# Altium schematic symbol library SYM-Connector.SchLib: 117 symbols (part 1 of 4)
Pins are listed as number, name and electrical type; pins without a type are passive.

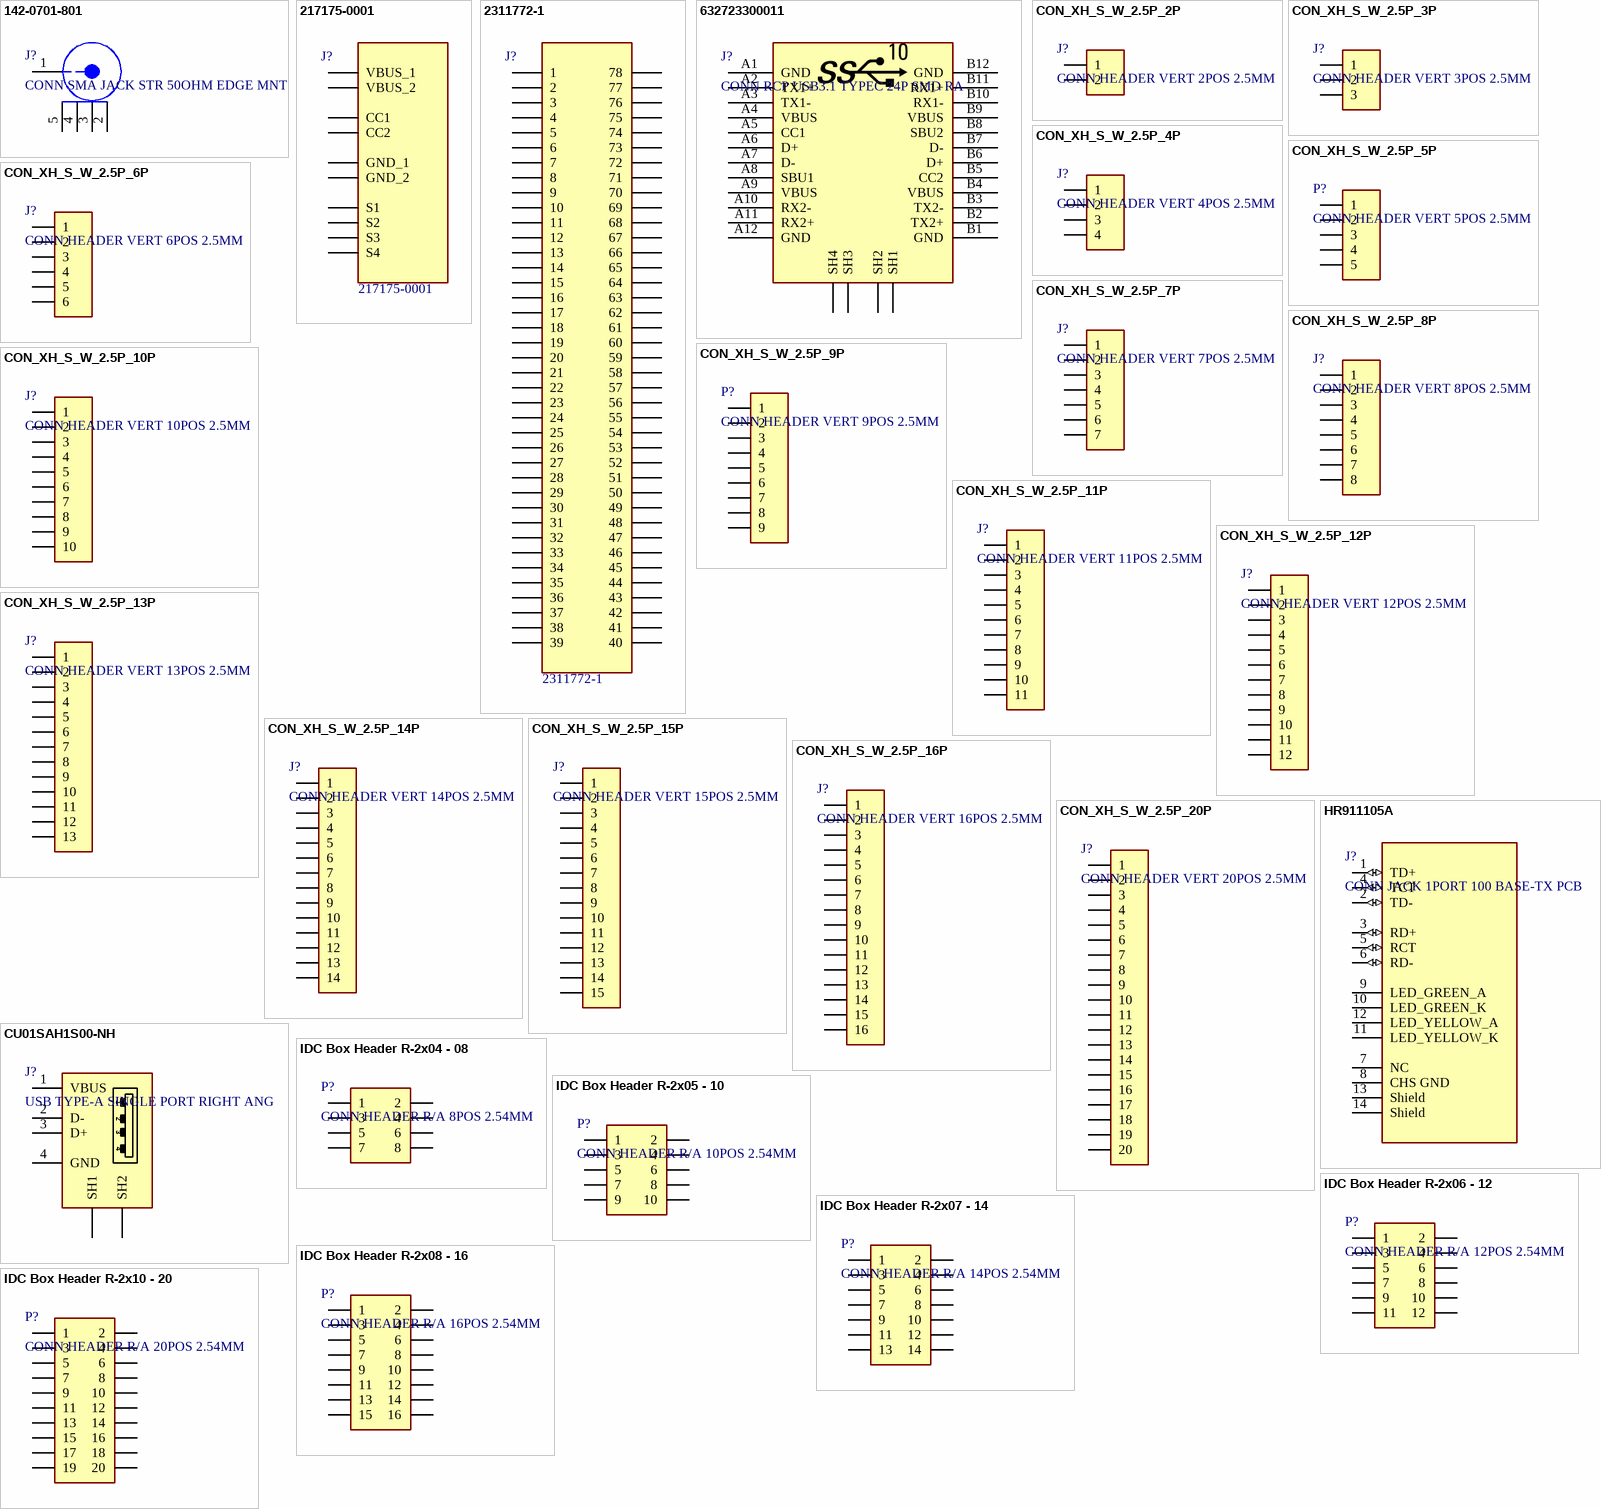
[diagram p0: symbols 142-0701-801 to IDC Box Header R-2x10 - 20]

## 142-0701-801
designator J?, comment CONN SMA JACK STR 50OHM EDGE MNT
Conn SMA 0Hz to 18GHz 50Ohm Solder ST Edge Mount F Gold Over Nickel Over Copper; Manufacturer: Emerson; Manufacturer Part Number: 142-0701-801; Supplier 1: Digi-Key; RoHS: No; Stock 1: 36873; Pricing 1: 1=3/74000, 10=3/39900, 25=3/21920, 50=3/14440, 100=2/99460, 250=2/62028, 500=2/54542, 1000=2/17110, 2500=2/09623 (USD); RoHS Compliant: No; ComponentLink1URL: http://www.belfuse.com/resources/Johnson/drawings/dr-1420701801.pdf?src-supplier=Digi-Key; ComponentLink1Description: http://www.belfuse.com/resources/Johnson/drawings/dr-1420701801.pdf?src-supplier=Digi-Key; Supplier Part Number 1: J502-ND
footprint SMA Jack - SL
pins: 1, 2, 3, 4, 5

## 217175-0001
designator J?, comment Manufacturer Part Number: 217175-0001  (hidden comment: USB Connectors Top-Mnt SMT 6Ckt Type C Rec.)
Connector USB Type C Female 6Positions 0.5mm Right Angle SMT Embossed T/R; Manufacturer: Molex; Supplier 1: Mouser; RoHS: No; Category: Connectors; Stock 1: 9778; Pricing 1: 1=1/07000, 10=0/88000, 50=0/88000, 100=0/73400, 1000=0/58600, 10000=0/47600 (USD); Supplier Part Number 1: 538-217175-0001
footprint 2171750001
pins: A5 CC1, A9 VBUS_1, A12 GND_1, B5 CC2, B9 VBUS_2, B12 GND_2, S1, S2, S3, S4

## 2311772-1
designator J?, comment Manufacturer Part Number: 2311772-1  (hidden comment: CONN D-SUB HD RCPT 78P R/A SLDR)
Conn High Density D Subminiature RCP 78 POS 2.42mm Solder RA Through Hole; Manufacturer: TE Connectivity AMP; Supplier 1: Mouser; RoHS: Yes; Category: D-Sub Connectors; Stock 1: 227; Pricing 1: 1=32/76000, 10=28/69000, 50=27/45000, 100=26/56000, 1000=24/26000, 10000=24/26000 (USD); ComponentLink1URL: https://www.te.com/commerce/DocumentDelivery/DDEController?Action=srchrtrv&amp;DocNm=2311772&amp;DocType=Customer+Drawing&amp;DocLang=English&src-supplier=Digi-Key; ComponentLink1Description: https://www.te.com/commerce/DocumentDelivery/DDEController?Action=srchrtrv&amp;DocNm=2311772&amp;DocType=Customer+Drawing&amp;DocLang=English&src-supplier=Digi-Key; Supplier Part Number 1: 571-2311772-1
footprint 2311772-1
pins: 1, 2, 3, 4, 5, 6, 7, 8, 9, 10, 11, 12, 13, 14, 15, 16, 17, 18, 19, 20, 21, 22, 23, 24, 25, 26, 27, 28, 29, 30, 31, 32, 33, 34, 35, 36, 37, 38, 39, 40, 41, 42, 43, 44, 45, 46, 47, 48, 49, 50, 51, 52, 53, 54, 55, 56, 57, 58, 59, 60, 61, 62, 63, 64, 65, 66, 67, 68, 69, 70, 71, 72, 73, 74, 75, 76, 77, 78

## 632723300011
designator J?, comment CONN RCP USB3.1 TYPEC 24P SMD RA
Conn USB 3.1 Type C RCP 24 POS 0.5mm/0.4mm Solder RA SMD/Thru-Hole 24 Terminal 1 Port T/R; Manufacturer: Wurth Electronics; Manufacturer Part Number: 632723300011; Number of Contacts: 24; Gender: Receptacle; Supplier 1: Digi-Key; RoHS: Yes; Category: Connectors; Stock 1: 23572; Pricing 1: 1=4/24000, 10=3/93300, 50=3/31200, 100=3/05300 (USD); Mount: Surface Mount,Through Hole; Packaging: Tape and Reel; Connector Type: USB; RoHS Compliant: Yes; ComponentLink1URL: https://www.mouser.com/ds/2/445/632723x00011-782157.pdf?src-supplier=Mouser; ComponentLink1Description: https://www.mouser.com/ds/2/445/632723x00011-782157.pdf?src-supplier=Mouser; ComponentLink2URL: https://katalog.we-online.de/em/datasheet/632723x00011.pdf?src-supplier=Digi-Key; ComponentLink2Description: https://katalog.we-online.de/em/datasheet/632723x00011.pdf?src-supplier=Digi-Key; Supplier Part Number 1: 732-9618-1-ND
footprint USB_C_THSM (USB 3.1 Type C Receptacle Horizontal THR)
pins: A1 GND, A2 TX1+, A3 TX1-, A4 VBUS, A5 CC1, A6 D+, A7 D-, A8 SBU1, A9 VBUS, A10 RX2-, A11 RX2+, A12 GND, B1 GND, B2 TX2+, B3 TX2-, B4 VBUS, B5 CC2, B6 D+, B7 D-, B8 SBU2, B9 VBUS, B10 RX1-, B11 RX1+, B12 GND, SH1, SH2, SH3, SH4

## CON_XH_S_W_2.5P_2P
designator J?, comment CONN HEADER VERT 2POS 2.5MM
Conn Shrouded Header (4 Sides) HDR 2 POS 2.5mm Solder ST Top Entry Thru-Hole Box; Manufacturer: JST; Manufacturer Part Number: B2B-XH-AM(LF)(SN); Contact Resistance: 20mR; Number of Positions: 2; Connector Type: Male Pin; Max Current Rating: 3A; Max Voltage Rating (AC): 250V; Supplier 1: Digi-Key; RoHS: Yes; Category: Headers and Wire Housings; Pricing 1: 1=0/17000, 10=0/13400, 100=0/09910, 500=0/08198, 1000=0/07173, 5000=0/06148, 10000=0/05977 (USD); Mount: Through Hole; Contact Material: Brass; Contact Plating: Tin,Copper; Color: Green; Housing Color: White; Housing Material: Polyamide; Min Operating Temperature: -25°C; Max Operating Temperature: 85°C; Number of Rows: 1; Packaging: Bulk; Fastening Type: Detent; Termination: Solder; Orientation: Straight; Series: XH; Contact Type: Male Pin; Length: 7.4mm; Pitch: 2.5mm; Depth: 5.75mm; Lead Free: Lead Free; ComponentLink1URL: https://datasheet.ciiva.com/26894/getdatasheetpartid-640409-26894436.pdf?src-supplier=Verical; ComponentLink1Description: https://datasheet.ciiva.com/26894/getdatasheetpartid-640409-26894436.pdf?src-supplier=Verical; ComponentLink2URL: https://datasheet.ciiva.com/14800/exh-14800590.pdf?src-supplier=Digi-Key; ComponentLink2Description: https://datasheet.ciiva.com/14800/exh-14800590.pdf?src-supplier=Digi-Key; Supplier Part Number 1: 455-2273-ND
footprint XH-S-THT-W-02
pins: 1, 2

## CON_XH_S_W_2.5P_3P
designator J?, comment CONN HEADER VERT 3POS 2.5MM
间距2.5mm 3pin 直插 母座; Manufacturer: JST; Manufacturer Part Number: B3B-XH-AM(LF)(SN); Number of Positions: 3; Connector Type: Male Pin; Contact Resistance: 20mR; Max Current Rating: 3A; Max Voltage Rating (AC): 250V; Gender: Male; Pitch: 0.098inch; Supplier 1: Digi-Key; RoHS: Yes; Category: Headers and Wire Housings; Pricing 1: 1=0/18000, 10=0/14800, 100=0/11380, 500=0/09632, 1000=0/07881, 5000=0/07006, 10000=0/06349 (USD); Mount: Through Hole; Contact Plating: Tin,Copper,Lead; Color: Natural; Contact Material: Brass; Housing Color: White; Housing Material: Polyamide; Min Operating Temperature: -25°C; Max Operating Temperature: 85°C; Packaging: Bulk; Termination: Press-Fit; Number of Rows: 1; Fastening Type: Detent; Orientation: Straight; Length: 9.9mm; Depth: 5.75mm; Lead Free: Lead Free; ComponentLink1URL: https://datasheet.ciiva.com/26894/getdatasheetpartid-639773-26894456.pdf?src-supplier=Verical; ComponentLink1Description: https://datasheet.ciiva.com/26894/getdatasheetpartid-639773-26894456.pdf?src-supplier=Verical; Supplier Part Number 1: 455-2231-ND
footprint XH-S-THT-W-03
pins: 1, 2, 3

## CON_XH_S_W_2.5P_4P
designator J?, comment CONN HEADER VERT 4POS 2.5MM
Conn Shrouded Header HDR 4 POS 2.5mm Solder ST Top Entry Thru-Hole Box; Manufacturer: JST; Manufacturer Part Number: B4B-XH-AM (LF)(SN); Number of Positions: 4; Connector Type: Male Pin; Contact Resistance: 20mR; Max Current Rating: 3A; Max Voltage Rating (AC): 250V; Gender: Male; Pitch: 0.098inch; Supplier 1: Digi-Key; RoHS: Yes; Category: Headers and Wire Housings; Mount: Through Hole; Number of Pins: 4; Contact Plating: Tin,Copper,Lead; Color: Green; Contact Material: Brass; Housing Color: White; Housing Material: Polyamide; Min Operating Temperature: -25°C; Max Operating Temperature: 85°C; Number of Rows: 1; Packaging: Bulk; Termination: Press-Fit; Fastening Type: Detent; Orientation: Straight; Length: 12.4mm; Depth: 5.75mm; Lead Free: Lead Free; ComponentLink1URL: https://datasheet.ciiva.com/26894/getdatasheetpartid-731169-26894469.pdf?src-supplier=Verical; ComponentLink1Description: https://datasheet.ciiva.com/26894/getdatasheetpartid-731169-26894469.pdf?src-supplier=Verical; Supplier Part Number 1: 455-2237-ND
footprint XH-S-THT-W-04
pins: 1, 2, 3, 4

## CON_XH_S_W_2.5P_5P
designator P?, comment CONN HEADER VERT 5POS 2.5MM
JST, Connector Header, 5 Position, 2.5mm, Through Hole, Shrouded - 4 Wall, Press-Fit, Solder, Detent Lock, Natural; Manufacturer Part Number: B5B-XH-AM(LF)(SN); Contact Resistance: 20mR; Max Current Rating: 3A; Number of Positions: 5; Max Voltage Rating (AC): 250V; Connector Type: Male Pin; Pitch: 0.098inch; Supplier 1: Digi-Key; Manufacturer: JST; RoHS: Yes; Category: Connectors; Stock 1: 7780; Pricing 1: 1=0/26000, 10=0/21900, 100=0/16880, 500=0/14286, 1000=0/11688, 5000=0/10389, 10000=0/09415 (USD); Mount: Through Hole; Contact Material: Brass; Contact Plating: Tin,Copper,Lead; Color: Green; Housing Color: White; Housing Material: Polyamide; Min Operating Temperature: -25°C; Max Operating Temperature: 85°C; Number of Rows: 1; Packaging: Bulk; Termination: Press-Fit; Fastening Type: Detent; Orientation: Straight; Series: XH; Contact Type: Male Pin; Length: 14.9mm; Depth: 5.75mm; Lead Free: Lead Free; ComponentLink1URL: https://datasheet.ciiva.com/26894/getdatasheetpartid-640829-26894480.pdf?src-supplier=Verical; ComponentLink1Description: https://datasheet.ciiva.com/26894/getdatasheetpartid-640829-26894480.pdf?src-supplier=Verical; ComponentLink2URL: https://datasheet.ciiva.com/726/exh-726396.pdf?src-supplier=Digi-Key; ComponentLink2Description: https://datasheet.ciiva.com/726/exh-726396.pdf?src-supplier=Digi-Key; Supplier Part Number 1: 455-2239-ND
footprint XH-S-THT-W-05
pins: 1, 2, 3, 4, 5

## CON_XH_S_W_2.5P_6P
designator J?, comment CONN HEADER VERT 6POS 2.5MM
Connector Header, XH Series, 6 Position, 2.5mm, Shrouded - 4 Wall, Through Hole, Press-Fit, Solder, Detent Lock, ...; Manufacturer: JST; Manufacturer Part Number: B6B-XH-AM(LF)(SN); Shape: Straight; Number of Poles: 6; Current Rating: 3A; Supplier 1: Digi-Key; RoHS: No; Category: Connectors; Pricing 1: 1=0/31000, 10=0/26000, 100=0/20240, 500=0/17352, 1000=0/14459, 5000=0/12394, 10000=0/11567 (USD); Number of Pins: 6; Contact Plating: Copper,Tin,Lead; Min Operating Temperature: -25°C; Max Operating Temperature: 85°C; Length: 17.4mm; Width: 5.75mm; Height: 7mm; Pitch: 2.5mm; ComponentLink1URL: http://www.jst-mfg.com/product/pdf/eng/eXH.pdf?src-supplier=Digi-Key; ComponentLink1Description: http://www.jst-mfg.com/product/pdf/eng/eXH.pdf?src-supplier=Digi-Key; Supplier Part Number 1: 455-2238-ND
footprint XH-S-THT-W-06
pins: 1, 2, 3, 4, 5, 6

## CON_XH_S_W_2.5P_7P
designator J?, comment CONN HEADER VERT 7POS 2.5MM
Conn Header Xh Top 7POS 2.5MM; Manufacturer: JST; Manufacturer Part Number: B7B-XH-AM(LF)(SN); Number of Positions: 7; Connector Type: Male Pin; Pitch: 0.098inch; Supplier 1: Digi-Key; RoHS: Yes; Category: FFC / FPC; Stock 1: 14476; Pricing 1: 1=0/35000, 10=0/29700, 100=0/23060, 500=0/19768, 1000=0/16473, 5000=0/14120, 10000=0/13179 (USD); Mount: Through Hole; Number of Pins: 7; Color: Green; Contact Plating: Tin; Packaging: Bulk; Number of Rows: 1; Termination: Press-Fit; Fastening Type: Detent; ComponentLink1URL: http://www.jst-mfg.com/product/pdf/eng/eXH.pdf?src-supplier=Digi-Key; ComponentLink1Description: http://www.jst-mfg.com/product/pdf/eng/eXH.pdf?src-supplier=Digi-Key; Supplier Part Number 1: 455-2235-ND
footprint XH-S-THT-W-07
pins: 1, 2, 3, 4, 5, 6, 7

## CON_XH_S_W_2.5P_8P
designator J?, comment CONN HEADER VERT 8POS 2.5MM
Connector Header, XH Series, 8 Position, 2.5mm, Shrouded - 4 Wall, Through Hole, Press-Fit, Solder, Detent Lock, ...; Manufacturer: JST; Manufacturer Part Number: B8B-XH-AM(LF)(SN); Number of Positions: 8; Connector Type: Male Pin; Pitch: 0.098inch; Supplier 1: Digi-Key; RoHS: Yes; Category: Connectors; Stock 1: 9799; Pricing 1: 1=0/38000, 10=0/32600, 100=0/25390, 500=0/21764, 1000=0/18136, 5000=0/15545, 10000=0/14509 (USD); Mount: Through Hole; Color: Green; Contact Plating: Tin; Packaging: Bulk; Termination: Press-Fit; Series: XH; Number of Rows: 1; Contact Type: Male Pin; Fastening Type: Detent; Lead Free: Lead Free; ComponentLink1URL: https://datasheet.ciiva.com/16363/exh-16363693.pdf?src-supplier=Future+Electronics; ComponentLink1Description: https://datasheet.ciiva.com/16363/exh-16363693.pdf?src-supplier=Future+Electronics; Supplier Part Number 1: 455-2232-ND
footprint XH-S-THT-W-08
pins: 1, 2, 3, 4, 5, 6, 7, 8

## CON_XH_S_W_2.5P_9P
designator P?, comment CONN HEADER VERT 9POS 2.5MM
Manufacturer: JST; Manufacturer Part Number: B9B-XH-AM(LF)(SN); Supplier 1: Digi-Key; RoHS: No; Category: Connectors; Stock 1: 71; Pricing 1: 1=0/44000, 10=0/37200, 100=0/28910, 500=0/24778, 1000=0/20648, 5000=0/17698, 10000=0/16518 (USD); Supplier Part Number 1: 455-4239-ND
footprint XH-S-THT-W-09
pins: 1, 2, 3, 4, 5, 6, 7, 8, 9

## CON_XH_S_W_2.5P_10P
designator J?, comment CONN HEADER VERT 10POS 2.5MM
Conn Shrouded Header HDR 10 POS 2.5mm Solder ST Thru-Hole Box; Manufacturer: JST; Manufacturer Part Number: B10B-XH-AM (LF)(SN); Contact Resistance: 20mR; Max Current Rating: 3A; Number of Positions: 10; Max Voltage Rating (AC): 250V; Gender: Male; Connector Type: Male Pin; Pitch: 0.098inch; Supplier 1: Digi-Key; RoHS: Yes; Category: Connectors; Mount: Through Hole; Number of Pins: 10; Contact Material: Brass; Contact Plating: Tin,Copper,Lead; Color: Green; Housing Color: White; Housing Material: Polyamide; Min Operating Temperature: -25°C; Max Operating Temperature: 85°C; Number of Rows: 1; Packaging: Bulk; Termination: Press-Fit; Fastening Type: Detent; Orientation: Straight; Length: 27.4mm; Depth: 5.75mm; ComponentLink1URL: https://datasheet.ciiva.com/26894/getdatasheetpartid-748904-26894395.pdf?src-supplier=Verical; ComponentLink1Description: https://datasheet.ciiva.com/26894/getdatasheetpartid-748904-26894395.pdf?src-supplier=Verical; Supplier Part Number 1: 455-2234-ND
footprint XH-S-THT-W-10
pins: 1, 2, 3, 4, 5, 6, 7, 8, 9, 10

## CON_XH_S_W_2.5P_11P
designator J?, comment CONN HEADER VERT 11POS 2.5MM
11 Contacts 2.5 mm Pitch Top Entry Disconnectable Crimp Style Connector; Manufacturer: JST; Manufacturer Part Number: B11B-XH-A(LF)(SN); Number of Positions: 11; Connector Type: Male Pin; Contact Resistance: 10mR; Current Rating: 3A; Voltage Rating (AC): 250V; Insulation Resistance: 1GR; Gender: Male; Pitch: 0.098inch; Wire/Cable Gauge: 22AWG; Supplier 1: Digi-Key; RoHS: Yes; Category: FFC / FPC; Pricing 1: 1=0/44000, 10=0/38400, 100=0/31630, 500=0/27502, 1000=0/22689, 5000=0/19939, 10000=0/18564 (USD); Mount: Through Hole; Color: Natural; Contact Plating: Tin,Lead; Contact Material: Brass; Min Operating Temperature: -25°C; Max Operating Temperature: 85°C; Number of Rows: 1; Package Quantity: 250; Packaging: Bulk; Termination: Press-Fit; Series: XH; Contact Type: Male Pin; Number of Contacts: 11; Lead Pitch: 2.5mm; REACH SVHC: No SVHC; Lead Free: Lead Free; ComponentLink1URL: https://datasheet.ciiva.com/16359/jstb11b-xh-a-lf-sn-16359290.pdf?src-supplier=Future+Electronics; ComponentLink1Description: https://datasheet.ciiva.com/16359/jstb11b-xh-a-lf-sn-16359290.pdf?src-supplier=Future+Electronics; ComponentLink2URL: https://datasheet.ciiva.com/726/exh-726410.pdf?src-supplier=Digi-Key; ComponentLink2Description: https://datasheet.ciiva.com/726/exh-726410.pdf?src-supplier=Digi-Key; Supplier Part Number 1: 455-2255-ND
footprint XH-S-THT-W-11
pins: 1, 2, 3, 4, 5, 6, 7, 8, 9, 10, 11

## CON_XH_S_W_2.5P_12P
designator J?, comment CONN HEADER VERT 12POS 2.5MM
Manufacturer: JST; Manufacturer Part Number: B12B-XH-AM(LF)(SN); Number of Positions: 12; Connector Type: Male Pin; Pitch: 0.098inch; Supplier 1: Digi-Key; RoHS: Yes; Category: Connectors; Pricing 1: 1=0/52000, 10=0/45400, 100=0/37450, 500=0/32566, 1000=0/26868, 5000=0/23611, 10000=0/21983 (USD); Mount: Through Hole; Color: Green; Contact Plating: Tin; Number of Rows: 1; Packaging: Bulk; Termination: Press-Fit; Series: XH; Contact Type: Male Pin; Fastening Type: Detent; ComponentLink1URL: https://datasheet.ciiva.com/726/exh-726390.pdf?src-supplier=Digi-Key; ComponentLink1Description: https://datasheet.ciiva.com/726/exh-726390.pdf?src-supplier=Digi-Key; Supplier Part Number 1: 455-2233-ND
footprint XH-S-THT-W-12
pins: 1, 2, 3, 4, 5, 6, 7, 8, 9, 10, 11, 12

## CON_XH_S_W_2.5P_13P
designator J?, comment CONN HEADER VERT 13POS 2.5MM
13 Position 2.5 mm Pitch Top Entry Through Hole Shrouded Header; Manufacturer: JST; Manufacturer Part Number: B13B-XH-A(LF)(SN); Number of Positions: 13; Connector Type: Male Pin; Pitch: 0.098inch; Supplier 1: Digi-Key; RoHS: Yes; Category: FFC / FPC; Stock 1: 357; Pricing 1: 1=0/54000, 10=0/47200, 100=0/38880, 500=0/33812, 1000=0/27895, 5000=0/24514, 10000=0/22823 (USD); Mount: Through Hole; Color: Natural; Contact Plating: Tin; Number of Rows: 1; Packaging: Bulk; Termination: Press-Fit; Series: XH; Contact Type: Male Pin; Package Quantity: 250; Lead Free: Lead Free; ComponentLink1URL: https://datasheet.ciiva.com/726/exh-726415.pdf?src-supplier=Digi-Key; ComponentLink1Description: https://datasheet.ciiva.com/726/exh-726415.pdf?src-supplier=Digi-Key; Supplier Part Number 1: 455-2260-ND
footprint XH-S-THT-W-13
pins: 1, 2, 3, 4, 5, 6, 7, 8, 9, 10, 11, 12, 13

## CON_XH_S_W_2.5P_14P
designator J?, comment CONN HEADER VERT 14POS 2.5MM
XH Series 14 Position 2.5 mm Pitch Through Hole Top Entry Shrouded Header; Manufacturer: JST; Manufacturer Part Number: B14B-XH-A(LF)(SN); Number of Positions: 14; Connector Type: Male Pin; Pitch: 0.098inch; Supplier 1: Digi-Key; RoHS: Yes; Category: FFC / FPC; Stock 1: 4940; Pricing 1: 1=0/58000, 10=0/51000, 100=0/42040, 500=0/36552, 1000=0/30156, 5000=0/26501, 10000=0/24673 (USD); Mount: Through Hole; Color: Natural; Contact Plating: Tin; Package Quantity: 250; Number of Rows: 1; Packaging: Bulk; Termination: Press-Fit; Series: XH; Contact Type: Male Pin; Lead Free: Lead Free; ComponentLink1URL: https://datasheet.ciiva.com/726/exh-726413.pdf?src-supplier=Digi-Key; ComponentLink1Description: https://datasheet.ciiva.com/726/exh-726413.pdf?src-supplier=Digi-Key; ComponentLink2URL: https://datasheet.ciiva.com/16359/b14b-xh-alfsn-16359517.pdf?src-supplier=Future+Electronics; ComponentLink2Description: https://datasheet.ciiva.com/16359/b14b-xh-alfsn-16359517.pdf?src-supplier=Future+Electronics; Supplier Part Number 1: 455-2258-ND
footprint XH-S-THT-W-14
pins: 1, 2, 3, 4, 5, 6, 7, 8, 9, 10, 11, 12, 13, 14

## CON_XH_S_W_2.5P_15P
designator J?, comment CONN HEADER VERT 15POS 2.5MM
Connector Header, XH Series, 15 Position, 2.50mm, Through Hole, Press-Fit, Solder, Natural; Manufacturer: JST; Manufacturer Part Number: B15B-XH-A(LF)(SN); Number of Positions: 15; Connector Type: Male Pin; Pitch: 0.098inch; Supplier 1: Digi-Key; RoHS: Yes; Category: Connectors; Stock 1: 3012; Pricing 1: 1=0/61000, 10=0/53600, 100=0/44160, 500=0/38398, 1000=0/31679, 5000=0/27839, 10000=0/25919 (USD); Mount: Through Hole; Color: Natural; Contact Plating: Tin; Packaging: Bulk; Number of Rows: 1; Termination: Press-Fit; Fastening Type: Detent; Lead Free: Lead Free; ComponentLink1URL: https://datasheet.ciiva.com/16216/b15b-xh-alfsn-16216429.pdf?src-supplier=Future+Electronics; ComponentLink1Description: https://datasheet.ciiva.com/16216/b15b-xh-alfsn-16216429.pdf?src-supplier=Future+Electronics; Supplier Part Number 1: 455-2254-ND
footprint XH-S-THT-W-15
pins: 1, 2, 3, 4, 5, 6, 7, 8, 9, 10, 11, 12, 13, 14, 15

## CON_XH_S_W_2.5P_16P
designator J?, comment CONN HEADER VERT 16POS 2.5MM
ShroudedHdr, ThruHole, Top Entry, 16Circuit, 2.5mmPitch; Manufacturer: JST; Manufacturer Part Number: B16B-XH-A(LF)(SN); Max Current Rating: 3A; Number of Positions: 16; Max Voltage Rating (AC): 250V; Gender: Male; Connector Type: Male Pin; Contact Resistance: 20mR; Pitch: 0.098inch; Supplier 1: Digi-Key; RoHS: Yes; Category: FFC / FPC; Stock 1: 12042; Pricing 1: 1=0/65000, 10=0/56600, 100=0/46640, 500=0/40560, 1000=0/33462, 5000=0/29406, 10000=0/27378 (USD); Mount: Through Hole; Contact Material: Brass; Contact Plating: Tin,Copper,Lead; Color: Natural; Housing Color: White; Housing Material: Polyamide; Min Operating Temperature: -25°C; Max Operating Temperature: 85°C; Packaging: Bulk; Termination: Press-Fit; Series: XH; Number of Rows: 1; Package Quantity: 200; Number of Contacts: 16; Orientation: Straight; Contact Type: Male Pin; Length: 42.4mm; Depth: 5.75mm; REACH SVHC: No SVHC; Lead Free: Lead Free; ComponentLink1URL: https://datasheet.ciiva.com/26894/getdatasheetpartid-640313-26894415.pdf?src-supplier=Verical; ComponentLink1Description: https://datasheet.ciiva.com/26894/getdatasheetpartid-640313-26894415.pdf?src-supplier=Verical; ComponentLink2URL: https://datasheet.ciiva.com/16422/exh-16422810.pdf?src-supplier=Future+Electronics; ComponentLink2Description: https://datasheet.ciiva.com/16422/exh-16422810.pdf?src-supplier=Future+Electronics; ComponentLink3URL: https://datasheet.ciiva.com/726/exh-726398.pdf?src-supplier=Digi-Key; ComponentLink3Description: https://datasheet.ciiva.com/726/exh-726398.pdf?src-supplier=Digi-Key; Supplier Part Number 1: 455-2241-ND
footprint XH-S-THT-W-16
pins: 1, 2, 3, 4, 5, 6, 7, 8, 9, 10, 11, 12, 13, 14, 15, 16

## CON_XH_S_W_2.5P_20P
designator J?, comment CONN HEADER VERT 20POS 2.5MM
XH Series 20 Position 2.5 mm Pitch Through Hole Top Entry Shrouded Header; Manufacturer: JST; Manufacturer Part Number: B20B-XH-A(LF)(SN); Number of Positions: 20; Connector Type: Male Pin; Pitch: 0.098inch; Supplier 1: Digi-Key; RoHS: Yes; Category: FFC / FPC; Pricing 1: 1=0/81000, 10=0/68200, 100=0/61220, 500=0/50092, 1000=0/44527, 5000=0/38961, 10000=0/37013 (USD); Mount: Through Hole; Color: Natural; Contact Plating: Tin; Packaging: Bulk; Number of Rows: 1; Termination: Press-Fit; Fastening Type: Detent; Lead Free: Lead Free; ComponentLink1URL: http://www.jst-mfg.com/product/pdf/eng/eXH.pdf?src-supplier=Digi-Key; ComponentLink1Description: http://www.jst-mfg.com/product/pdf/eng/eXH.pdf?src-supplier=Digi-Key; ComponentLink2URL: http://www.jst-mfg.com/product/pdf/eng/eXH.pdf?src-supplier=Future+Electronics; ComponentLink2Description: http://www.jst-mfg.com/product/pdf/eng/eXH.pdf?src-supplier=Future+Electronics; Supplier Part Number 1: 455-2945-ND
footprint XH-S-THT-W-20
pins: 1, 2, 3, 4, 5, 6, 7, 8, 9, 10, 11, 12, 13, 14, 15, 16, 17, 18, 19, 20

## CU01SAH1S00-NH
designator J?, comment USB TYPE-A SINGLE PORT RIGHT ANG
Manufacturer: CviLux; Manufacturer Part Number: CU01SAH1S00-NH; Supplier 1: Digi-Key; Stock 1: 6712; Pricing 1: 1=0/57000, 10=0/49800, 25=0/45520, 40=0/42850, 150=0/41053, 300=0/37487, 450=0/35700, 1050=0/29452, 2400=0/26775 (USD); Supplier Part Number 1: 2987-CU01SAH1S00-NH-ND
footprint USB_A_REC_RA_THD (CONN, USB A, Receptacle, RIGHT ANGLE, THD)
pins: 1 VBUS, 2 D-, 3 D+, 4 GND, SH1, SH2

## HR911105A
designator J?, comment CONN JACK 1PORT 100 BASE-TX PCB
footprint HR911105A
pins: 1 TD+ (io), 2 TD- (io), 3 RD+ (io), 4 TCT (io), 5 RCT (io), 6 RD- (io), 7 NC, 8 CHS GND, 9 LED_GREEN_A, 10 LED_GREEN_K, 11 LED_YELLOW_K, 12 LED_YELLOW_A, 13 Shield, 14 Shield

## IDC Box Header R-2x04 - 08
designator P?, comment CONN HEADER R/A 8POS 2.54MM
Conn Shrouded Header (4 Sides) HDR 8 POS 2.54mm Solder RA Thru-Hole C-Grid® Tray; Manufacturer: Molex; Manufacturer Part Number: 70247-0851; Max Voltage Rating (DC): 250V; Number of Contacts: 8; Gender: Male; Current Rating: 2.5A; Connector Type: Male Pin; Contact Post Length: 3.05mm; Glow Wire Compliant: Non-compliant; Supplier 1: Digi-Key; RoHS: Yes; Category: Headers and Wire Housings; Pricing 1: 1=1/88000, 10=1/60000, 100=1/32210, 1000=1/04375, 5000=0/92546, 10000=0/90459 (USD); Mount: Through Hole; Contact Plating: Gold; Contact Material: Bronze; Housing Color: Black; Housing Material: Polyester; Color: Black; Material: Polyester; Min Operating Temperature: -55°C; Max Operating Temperature: 120°C; Number of Rows: 2; Packaging: Tray; Termination: Through Hole; Orientation: Right Angle; Package Quantity: 1; Voltage Rating (DC): 250V; Contact Gender: Male; Number of Positions: 8; Number of Circuits: 8; Series: 70247; Pitch: 2.54mm; Row Spacing: 2.54mm; Contact Mating Length: 6.1mm; REACH SVHC: No SVHC; ELV: Compliant; Lead Free: Lead Free; Flammability Rating: UL94 V-0; RoHS Compliant: Yes; ComponentLink1URL: https://datasheet.ciiva.com/30259/342430702470851-pcb-headers-30259619.pdf?src-supplier=Onlinecomponents.com; ComponentLink1Description: https://datasheet.ciiva.com/30259/342430702470851-pcb-headers-30259619.pdf?src-supplier=Onlinecomponents.com; ComponentLink2URL: https://datasheet.ciiva.com/5162/0702470851-pcb-headers-150048-5162327.pdf?src-supplier=Mouser; ComponentLink2Description: https://datasheet.ciiva.com/5162/0702470851-pcb-headers-150048-5162327.pdf?src-supplier=Mouser; ComponentLink3URL: https://datasheet.ciiva.com/7683/1711641-7683818.pdf?src-supplier=Element14; ComponentLink3Description: https://datasheet.ciiva.com/7683/1711641-7683818.pdf?src-supplier=Element14; Supplier Part Number 1: 900-0702470851-ND
footprint IDC-S1-R-2x04 - 08
pins: 1, 2, 3, 4, 5, 6, 7, 8

## IDC Box Header R-2x05 - 10
designator P?, comment CONN HEADER R/A 10POS 2.54MM
2.54mm Pitch C-Grid Header Dual Row Low Profile Right Angle Shrouded 10 Circuits 0.38; Manufacturer: Molex; Manufacturer Part Number: 0702471051; Number of Positions: 10; Connector Type: Male Pin; Max Voltage Rating (AC): 250V; Pitch: 0.1inch; Supplier 1: Digi-Key; RoHS: Yes; Category: Headers and Wire Housings; Pricing 1: 1=1/92000, 10=1/63300, 100=1/34880, 1000=1/06486, 5000=0/94417, 10000=0/92288 (USD); Mount: Through Hole; Contact Plating: Gold; Contact Material: Bronze; Color: Black; Housing Material: Polybutylene; Housing Color: Black; Min Operating Temperature: -55°C; Max Operating Temperature: 120°C; Packaging: Tray; Number of Rows: 2; Termination: Solder; Orientation: Right Angle; Series: C-Grid® 70247; Contact Type: Male Pin; Length: 20.32mm; Depth: 11.81mm; Row Spacing: 0.1inch; Contact Mating Length: 0.24inch; Radiation Hardening: No; RoHS Compliant: Yes; ComponentLink1URL: https://datasheet.ciiva.com/6815/702471651-sd-6815684.pdf?src-supplier=Digi-Key; ComponentLink1Description: https://datasheet.ciiva.com/6815/702471651-sd-6815684.pdf?src-supplier=Digi-Key; Supplier Part Number 1: WM4634-ND
footprint IDC-S1-R-2x05 - 10
pins: 1, 2, 3, 4, 5, 6, 7, 8, 9, 10

## IDC Box Header R-2x06 - 12
designator P?, comment CONN HEADER R/A 12POS 2.54MM
2.54mm Pitch C-Grid Header Dual Row Low Profile Right Angle Shrouded 12 Circuits 0.38; Manufacturer: Molex; Manufacturer Part Number: 0702471251; Number of Positions: 12; Max Voltage Rating (DC): 250V; Connector Type: Male Pin; Row Spacing: 0.1inch; Supplier 1: Digi-Key; RoHS: Yes; Category: Headers and Wire Housings; Pricing 1: 1792=1/07443 (USD); Mount: Through Hole; Contact Plating: Gold; Housing Material: Polybutylene; Contact Material: Bronze; Color: Black; Housing Color: Black; Min Operating Temperature: -55°C; Max Operating Temperature: 120°C; Orientation: Right Angle; Packaging: Tray; Number of Rows: 2; Termination: Solder; Series: C-Grid® 70247; Number of Contacts: 12; Contact Type: Male Pin; Length: 22.86mm; Pitch: 2.54mm; Contact Mating Length: 0.24inch; Depth: 12.13mm; RoHS Compliant: Yes; ComponentLink1URL: https://datasheet.ciiva.com/10083/0702471251-pcb-headers-10083279.pdf?src-supplier=Avnet; ComponentLink1Description: https://datasheet.ciiva.com/10083/0702471251-pcb-headers-10083279.pdf?src-supplier=Avnet; ComponentLink2URL: https://datasheet.ciiva.com/2961/702471054-sd-2961627.pdf?src-supplier=Digi-Key; ComponentLink2Description: https://datasheet.ciiva.com/2961/702471054-sd-2961627.pdf?src-supplier=Digi-Key; Supplier Part Number 1: 0702471251-ND
footprint IDC-S1-R-2x06 - 12
pins: 1, 2, 3, 4, 5, 6, 7, 8, 9, 10, 11, 12

## IDC Box Header R-2x07 - 14
designator P?, comment CONN HEADER R/A 14POS 2.54MM
2.54mm Pitch C-Grid Header Dual Row Low Profile Right Angle Shrouded 14 Circuits 0.38; Manufacturer: Molex; Manufacturer Part Number: 0702471451; Number of Positions: 14; Connector Type: Male Pin; Max Voltage Rating (DC): 250V; Pitch: 0.1inch; Supplier 1: Digi-Key; RoHS: Yes; Category: Headers and Wire Housings; Stock 1: 3774; Pricing 1: 1=2/84000, 10=2/49500, 80=1/98450, 1536=1/58760, 5376=1/51200 (USD); Mount: Through Hole; Housing Material: Polyester; Color: Black; Housing Color: Black; Contact Plating: Gold; Contact Material: Bronze; Min Operating Temperature: -55°C; Max Operating Temperature: 120°C; Number of Rows: 2; Packaging: Tray; Orientation: Right Angle; Termination: Solder; Length: 25.4mm; Row Spacing: 0.1inch; Contact Mating Length: 0.24inch; Radiation Hardening: No; ComponentLink1URL: https://datasheet.ciiva.com/738/702471451-sd-738331.pdf?src-supplier=Digi-Key; ComponentLink1Description: https://datasheet.ciiva.com/738/702471451-sd-738331.pdf?src-supplier=Digi-Key; ComponentLink2URL: https://datasheet.ciiva.com/9470/0702471451-pcb-headers-9470315.pdf?src-supplier=Avnet; ComponentLink2Description: https://datasheet.ciiva.com/9470/0702471451-pcb-headers-9470315.pdf?src-supplier=Avnet; Supplier Part Number 1: WM4054-ND
footprint IDC-S1-R-2x07 - 14
pins: 1, 2, 3, 4, 5, 6, 7, 8, 9, 10, 11, 12, 13, 14

## IDC Box Header R-2x08 - 16
designator P?, comment CONN HEADER R/A 16POS 2.54MM
Conn Shrouded Header (4 Sides) HDR 16 POS 2.54mm Solder RA Side Entry Thru-Hole C-Grid® Tray; Manufacturer: Molex; Manufacturer Part Number: 0702471651; Number of Positions: 16; Connector Type: Male Pin; Contact Resistance: 15mR; Max Voltage Rating (DC): 250V; Row Spacing: 0.1inch; Supplier 1: Digi-Key; RoHS: Yes; Category: Headers and Wire Housings; Pricing 1: 1=3/26000, 10=2/86400, 100=2/27850, 1000=1/88790, 5000=1/73600 (USD); Mount: Through Hole; Color: Black; Housing Material: Polyester; Housing Color: Black; Contact Plating: Gold; Contact Material: Bronze; Min Operating Temperature: -55°C; Max Operating Temperature: 120°C; Packaging: Tray; Number of Rows: 2; Termination: Solder; Number of Contacts: 16; Orientation: Right Angle; Length: 27.94mm; Pitch: 2.54mm; Contact Mating Length: 0.24inch; Radiation Hardening: No; ComponentLink1URL: https://datasheet.ciiva.com/6815/702471651-sd-6815684.pdf?src-supplier=Digi-Key; ComponentLink1Description: https://datasheet.ciiva.com/6815/702471651-sd-6815684.pdf?src-supplier=Digi-Key; ComponentLink2URL: https://datasheet.ciiva.com/10080/0702471651-pcb-headers-10080096.pdf?src-supplier=Avnet; ComponentLink2Description: https://datasheet.ciiva.com/10080/0702471651-pcb-headers-10080096.pdf?src-supplier=Avnet; Supplier Part Number 1: WM9225-ND
footprint IDC-S1-R-2x08 - 16
pins: 1, 2, 3, 4, 5, 6, 7, 8, 9, 10, 11, 12, 13, 14, 15, 16

## IDC Box Header R-2x10 - 20
designator P?, comment CONN HEADER R/A 20POS 2.54MM
2.54mm Pitch C-Grid Header Dual Row Low Profile Right Angle Shrouded 20 Circuits 0.38; Manufacturer: Molex; Manufacturer Part Number: 0702472051; Max Voltage Rating (DC): 250V; Number of Contacts: 20; Supplier 1: Digi-Key; RoHS: Yes; Category: Headers and Wire Housings; Stock 1: 5144; Pricing 1: 1=3/62000, 10=3/18800, 100=2/53580, 1000=2/10105, 5000=1/93200 (USD); Contact Plating: Gold; Contact Material: Bronze; Housing Color: Black; Housing Material: Polyester; Min Operating Temperature: -55°C; Max Operating Temperature: 120°C; Number of Rows: 2; Termination: Solder; Packaging: Tray; Orientation: Right Angle; Length: 33.02mm; Pitch: 2.54mm; Depth: 12.01mm; Radiation Hardening: No; ComponentLink1URL: https://datasheet.ciiva.com/9465/0702472051-pcb-headers-9465163.pdf?src-supplier=Avnet; ComponentLink1Description: https://datasheet.ciiva.com/9465/0702472051-pcb-headers-9465163.pdf?src-supplier=Avnet; Supplier Part Number 1: 23-0702472051-ND
footprint IDC-S1-R-2x10 - 20
pins: 1, 2, 3, 4, 5, 6, 7, 8, 9, 10, 11, 12, 13, 14, 15, 16, 17, 18, 19, 20

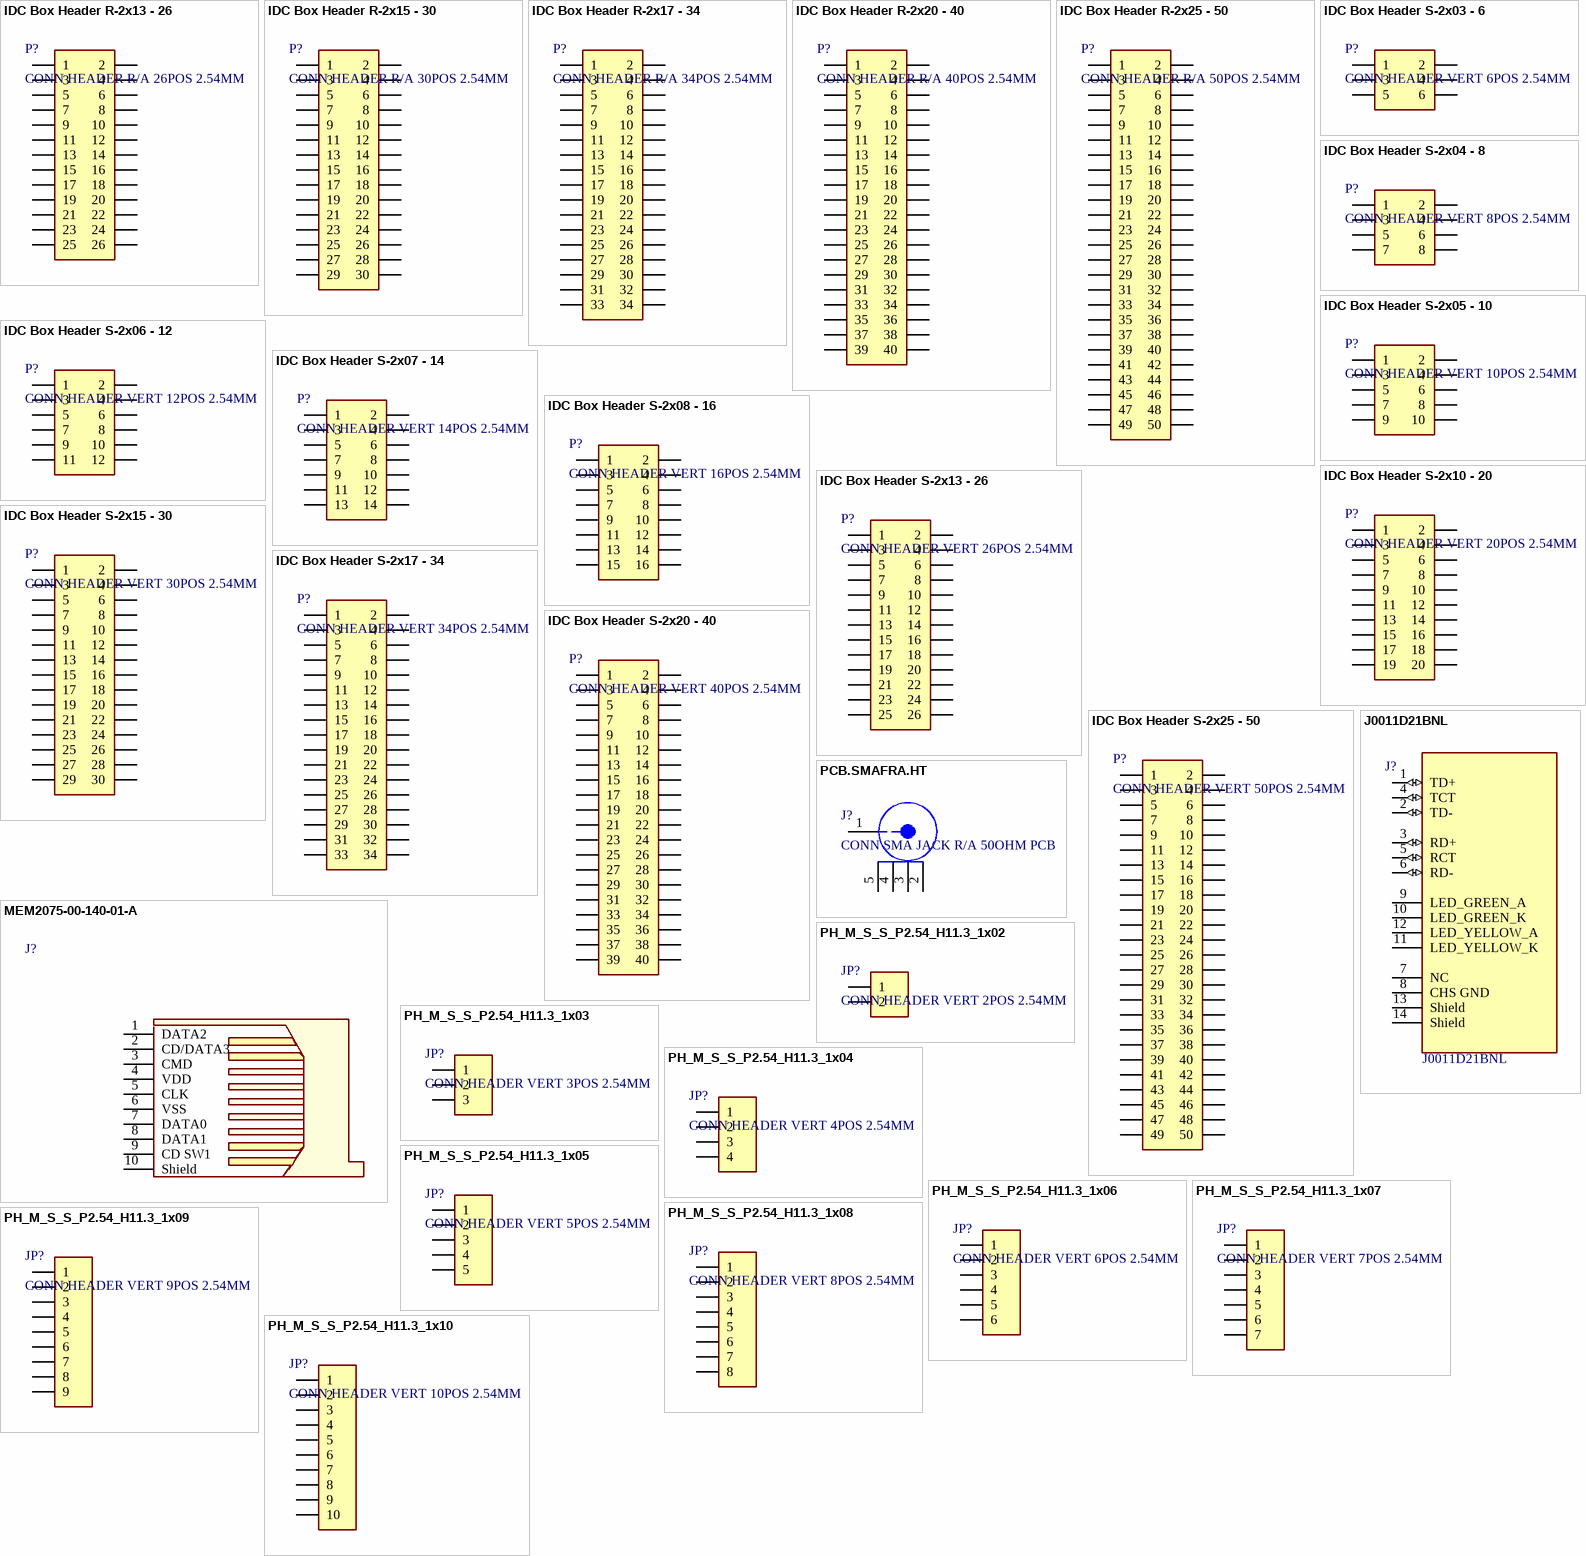
[diagram p1: symbols IDC Box Header R-2x13 - 26 to PH_M_S_S_P2.54_H11.3_1x10]

## IDC Box Header R-2x13 - 26
designator P?, comment CONN HEADER R/A 26POS 2.54MM
2.54mm Pitch C-Grid Header Dual Row Low Profile Right Angle Shrouded 26 Circuits 0.38; Manufacturer: Molex; Manufacturer Part Number: 70247-2651; Number of Contacts: 26; Max Current Rating: 2A; Current Rating: 2.5A; Voltage Rating: 250V; Max Voltage Rating (AC): 125V; Gender: Male; Connector Type: Male Pin; Row Spacing: 0.1inch; Glow Wire Compliant: Non-compliant; Supplier 1: Digi-Key; RoHS: Yes; Category: Headers and Wire Housings; Stock 1: 1918; Pricing 1: 1=4/49000, 10=3/95000, 100=3/14210, 1000=2/60348 (USD); Mount: Through Hole,Surface Mount; Contact Plating: Gold; Contact Material: Bronze; Housing Color: Black; Housing Material: Polyester; Color: Black; Material: Polyester; Min Operating Temperature: -55°C; Max Operating Temperature: 105°C; Number of Rows: 2; Packaging: Tray; Termination: Solder; Orientation: Right Angle; Package Quantity: 1; Number of Positions: 26; Number of Circuits: 26; Series: C-Grid® 70247; Contact Type: Male Pin; Length: 10.65mm; Width: 9.27mm; Height: 7.6mm; Pitch: 2.54mm; Depth: 6.3mm; Contact Mating Length: 0.24inch; Radiation Hardening: No; REACH SVHC: No SVHC; ELV: Compliant; Lead Free: Lead Free; Flammability Rating: UL94 V-0; RoHS Compliant: Yes; ComponentLink1URL: https://datasheet.ciiva.com/6815/702471651-sd-6815684.pdf?src-supplier=Digi-Key; ComponentLink1Description: https://datasheet.ciiva.com/6815/702471651-sd-6815684.pdf?src-supplier=Digi-Key; ComponentLink2URL: https://datasheet.ciiva.com/19461/1976144-19461700.pdf?src-supplier=Jameco; ComponentLink2Description: https://datasheet.ciiva.com/19461/1976144-19461700.pdf?src-supplier=Jameco; ComponentLink3URL: https://datasheet.ciiva.com/5162/0702472651-pcb-headers-172483-5162557.pdf?src-supplier=Mouser; ComponentLink3Description: https://datasheet.ciiva.com/5162/0702472651-pcb-headers-172483-5162557.pdf?src-supplier=Mouser; ComponentLink4URL: https://datasheet.ciiva.com/16730/0702472651-pcb-headers-16730176.pdf?src-supplier=Avnet+Europe; ComponentLink4Description: https://datasheet.ciiva.com/16730/0702472651-pcb-headers-16730176.pdf?src-supplier=Avnet+Europe; Supplier Part Number 1: 900-0702472651-ND
footprint IDC-S1-R-2x13 - 26
pins: 1, 2, 3, 4, 5, 6, 7, 8, 9, 10, 11, 12, 13, 14, 15, 16, 17, 18, 19, 20, 21, 22, 23, 24, 25, 26

## IDC Box Header R-2x15 - 30
designator P?, comment CONN HEADER R/A 30POS 2.54MM
2.54mm Pitch C-Grid Header Dual Row Low Profile Right Angle Shrouded 30 Circuits 0.38; Manufacturer: Molex; Manufacturer Part Number: 70247-3051; Number of Contacts: 30; Gender: Male; Max Voltage Rating (DC): 250V; Current Rating: 2.5A; Connector Type: Male Pin; Row Spacing: 0.1inch; Contact Post Length: 3.05mm; Glow Wire Compliant: Non-compliant; Supplier 1: Digi-Key; RoHS: Yes; Category: Headers and Wire Housings; Stock 1: 118; Pricing 1: 1=4/70000, 10=4/13500, 80=3/28913, 945=2/72527 (USD); Mount: Through Hole; Housing Material: Polyester; Housing Color: Black; Contact Material: Bronze; Contact Plating: Gold; Material: Polyester; Color: Black; Min Operating Temperature: -55°C; Max Operating Temperature: 120°C; Termination: Solder; Orientation: Right Angle; Number of Rows: 2; Packaging: Tray; Number of Positions: 30; Number of Circuits: 30; Voltage Rating (DC): 250V; Package Quantity: 1; Contact Gender: Male; Length: 45.7mm; Width: 9.27mm; Height: 8.89mm; Pitch: 2.54mm; Contact Mating Length: 0.24inch; ELV: Compliant; Lead Free: Lead Free; Flammability Rating: UL94 V-0; ComponentLink1URL: https://datasheet.ciiva.com/6815/702471651-sd-6815684.pdf?src-supplier=Digi-Key; ComponentLink1Description: https://datasheet.ciiva.com/6815/702471651-sd-6815684.pdf?src-supplier=Digi-Key; ComponentLink2URL: https://datasheet.ciiva.com/5162/0702473051-pcb-headers-150193-5162161.pdf?src-supplier=Mouser; ComponentLink2Description: https://datasheet.ciiva.com/5162/0702473051-pcb-headers-150193-5162161.pdf?src-supplier=Mouser; ComponentLink3URL: https://datasheet.ciiva.com/16106/1229660702473051-pcb-headers-16106730.pdf?src-supplier=Onlinecomponents.com; ComponentLink3Description: https://datasheet.ciiva.com/16106/1229660702473051-pcb-headers-16106730.pdf?src-supplier=Onlinecomponents.com; ComponentLink4URL: https://datasheet.ciiva.com/30049/0702473051-pcb-headers-30049855.pdf?src-supplier=Onlinecomponents.com; ComponentLink4Description: https://datasheet.ciiva.com/30049/0702473051-pcb-headers-30049855.pdf?src-supplier=Onlinecomponents.com; Supplier Part Number 1: 23-0702473051-ND
footprint IDC-S1-R-2x15 - 30
pins: 1, 2, 3, 4, 5, 6, 7, 8, 9, 10, 11, 12, 13, 14, 15, 16, 17, 18, 19, 20, 21, 22, 23, 24, 25, 26, 27, 28, 29, 30

## IDC Box Header R-2x17 - 34
designator P?, comment CONN HEADER R/A 34POS 2.54MM
Headers & Wire Housings CGrid Hdr Shrd R.A / /OStdf .38AuLF 34Ckt; Manufacturer: Molex; Manufacturer Part Number: 70247-3451; Gender: Male; Number of Contacts: 34; Connector Type: Male Pin; Current Rating: 2.5A; Voltage Rating (DC): 250V; Pitch: 0.1inch; Contact Post Length: 3.05mm; Glow Wire Compliant: Non-compliant; Supplier 1: Digi-Key; RoHS: Yes; Category: Headers and Wire Housings; Pricing 1: 768=3/41022 (USD); Mount: Through Hole; Housing Material: Polyester; Contact Plating: Gold; Contact Material: Bronze; Housing Color: Black; Color: Black; Material: Polyester; Number of Rows: 2; Packaging: Tray; Termination: Solder; Orientation: Right Angle; Contact Gender: Male; Package Quantity: 1; Number of Positions: 34; Number of Circuits: 34; Row Spacing: 0.1inch; Contact Mating Length: 0.24inch; REACH SVHC: No SVHC; ELV: Compliant; Lead Free: Lead Free; Flammability Rating: UL94 V-0; ComponentLink1URL: https://datasheet.ciiva.com/6815/702471651-sd-6815684.pdf?src-supplier=Digi-Key; ComponentLink1Description: https://datasheet.ciiva.com/6815/702471651-sd-6815684.pdf?src-supplier=Digi-Key; ComponentLink2URL: https://datasheet.ciiva.com/15398/0702473451-pcb-headers-150140-15398908.pdf?src-supplier=Mouser; ComponentLink2Description: https://datasheet.ciiva.com/15398/0702473451-pcb-headers-150140-15398908.pdf?src-supplier=Mouser; Supplier Part Number 1: 900-0702473451-ND
footprint IDC-S1-R-2x17 - 34
pins: 1, 2, 3, 4, 5, 6, 7, 8, 9, 10, 11, 12, 13, 14, 15, 16, 17, 18, 19, 20, 21, 22, 23, 24, 25, 26, 27, 28, 29, 30, 31, 32, 33, 34

## IDC Box Header R-2x20 - 40
designator P?, comment CONN HEADER R/A 40POS 2.54MM
2.54mm Pitch C-Grid Header Dual Row Low Profile Right Angle Shrouded 40 Circuits 0.38; Manufacturer: Molex; Manufacturer Part Number: 0702474051; Max Voltage Rating (DC): 250V; Number of Contacts: 40; Gender: Male; Contact Resistance: 15mR; Supplier 1: Digi-Key; RoHS: Yes; Category: Headers and Wire Housings; Pricing 1: 960=3/18918 (USD); Housing Color: Black; Housing Material: Polyester; Contact Plating: Gold; Contact Material: Bronze; Min Operating Temperature: -55°C; Max Operating Temperature: 120°C; Orientation: Right Angle; Termination: Solder; Packaging: Tray; Number of Rows: 2; Length: 58.42mm; Pitch: 2.54mm; Radiation Hardening: No; ComponentLink1URL: https://datasheet.ciiva.com/10072/0702474051-pcb-headers-10072399.pdf?src-supplier=Avnet; ComponentLink1Description: https://datasheet.ciiva.com/10072/0702474051-pcb-headers-10072399.pdf?src-supplier=Avnet; Supplier Part Number 1: 900-0702474051-ND
footprint IDC-S1-R-2x20 - 40
pins: 1, 2, 3, 4, 5, 6, 7, 8, 9, 10, 11, 12, 13, 14, 15, 16, 17, 18, 19, 20, 21, 22, 23, 24, 25, 26, 27, 28, 29, 30, 31, 32, 33, 34, 35, 36, 37, 38, 39, 40

## IDC Box Header R-2x25 - 50
designator P?, comment CONN HEADER R/A 50POS 2.54MM
2.54mm Pitch C-Grid Header Dual Row Low Profile Right Angle Shrouded 50 Circuits 0.38; Manufacturer: Molex; Manufacturer Part Number: 70247-5051; Gender: Male; Number of Contacts: 50; Current Rating: 2.5A; Voltage Rating: 250V; Connector Type: Male Pin; Pitch: 0.1inch; Glow Wire Compliant: Non-compliant; Supplier 1: Digi-Key; RoHS: Yes; Category: Headers and Wire Housings; Pricing 1: 256=5/17828 (USD); Mount: Through Hole; Contact Plating: Gold; Contact Material: Bronze; Housing Color: Black; Housing Material: Polyester; Color: Black; Material: Polyester; Number of Rows: 2; Packaging: Tray; Termination: Solder; Orientation: Right Angle; Package Quantity: 1; Number of Positions: 50; Number of Circuits: 50; Series: C-Grid® 70247; Contact Type: Male Pin; Length: 71.1mm; Width: 9.27mm; Height: 8.89mm; Row Spacing: 0.1inch; Contact Mating Length: 0.24inch; REACH SVHC: No SVHC; ELV: Compliant; Lead Free: Lead Free; Flammability Rating: UL94 V-0; RoHS Compliant: Yes; ComponentLink1URL: https://datasheet.ciiva.com/6815/702471651-sd-6815684.pdf?src-supplier=Digi-Key; ComponentLink1Description: https://datasheet.ciiva.com/6815/702471651-sd-6815684.pdf?src-supplier=Digi-Key; ComponentLink2URL: https://datasheet.ciiva.com/13567/0702475051-pcb-headers-172484-13567125.pdf?src-supplier=Mouser; ComponentLink2Description: https://datasheet.ciiva.com/13567/0702475051-pcb-headers-172484-13567125.pdf?src-supplier=Mouser; Supplier Part Number 1: 900-0702475051-ND
footprint IDC-S1-R-2x25 - 50
pins: 1, 2, 3, 4, 5, 6, 7, 8, 9, 10, 11, 12, 13, 14, 15, 16, 17, 18, 19, 20, 21, 22, 23, 24, 25, 26, 27, 28, 29, 30, 31, 32, 33, 34, 35, 36, 37, 38, 39, 40, 41, 42, 43, 44, 45, 46, 47, 48, 49, 50

## IDC Box Header S-2x03 - 6
designator P?, comment CONN HEADER VERT 6POS 2.54MM
Conn Shrouded Header (4 Sides) HDR 6 POS 2.54mm Solder ST Top Entry Thru-Hole C-Grid® Tray; Manufacturer: Molex; Manufacturer Part Number: 0878340619; Number of Positions: 6; Max Voltage Rating (DC): 250V; Connector Type: Male Pin; Row Spacing: 0.1inch; Supplier 1: Digi-Key; RoHS: Yes; Category: Headers and Wire Housings; Pricing 1: 1=1/40000, 10=1/15900, 80=0/96600, 1680=0/72450, 5040=0/67620, 10080=0/64400 (USD); Mount: Through Hole; Housing Material: Polyester; Contact Plating: Gold; Contact Material: Copper Alloy; Housing Color: Black; Color: Black; Min Operating Temperature: -55°C; Max Operating Temperature: 120°C; Orientation: Straight; Termination: Solder; Number of Contacts: 6; Package Quantity: 1680; Number of Rows: 2; Packaging: Tray; Length: 15.24mm; Pitch: 2.54mm; Contact Mating Length: 0.24inch; Depth: 8.89mm; Radiation Hardening: No; ComponentLink1URL: https://datasheet.ciiva.com/2961/878340619-sd-2961496.pdf?src-supplier=Digi-Key; ComponentLink1Description: https://datasheet.ciiva.com/2961/878340619-sd-2961496.pdf?src-supplier=Digi-Key; Supplier Part Number 1: WM14718-ND
footprint IDC-S1-S-2x03 - 06
pins: 1, 2, 3, 4, 5, 6

## IDC Box Header S-2x04 - 8
designator P?, comment CONN HEADER VERT 8POS 2.54MM
Conn Shrouded Header (4 Sides) HDR 8 POS 2.54mm Solder ST Top Entry Thru-Hole C-Grid® Tray; Manufacturer: Molex; Manufacturer Part Number: 0702460801; Contact Resistance: 15mR; Max Voltage Rating (AC): 250V; Number of Contacts: 8; Gender: Male; Supplier 1: Digi-Key; RoHS: Yes; Category: Headers and Wire Housings; Stock 1: 3352; Pricing 1: 1=1/39000, 10=1/15100, 100=0/95930, 1000=0/76742, 5000=0/67150, 10000=0/63792 (USD); Contact Plating: Gold; Housing Color: Black; Housing Material: Polyester; Min Operating Temperature: -55°C; Max Operating Temperature: 120°C; Number of Rows: 2; Packaging: Tray; Termination: Solder; Orientation: Straight; Length: 17.78mm; Pitch: 2.54mm; Depth: 8.89mm; ComponentLink1URL: https://datasheet.ciiva.com/3117/0702460801-pcb-headers-3117677.pdf?src-supplier=Avnet; ComponentLink1Description: https://datasheet.ciiva.com/3117/0702460801-pcb-headers-3117677.pdf?src-supplier=Avnet; Supplier Part Number 1: 900-0702460801-ND
footprint IDC-S1-S-2x04 - 08
pins: 1, 2, 3, 4, 5, 6, 7, 8

## IDC Box Header S-2x05 - 10
designator P?, comment CONN HEADER VERT 10POS 2.54MM
2.54mm Pitch C-Grid Header Low Profile Dual Row Vertical Shrouded 10 Circuits 0.38; Manufacturer: Molex; Manufacturer Part Number: 0702461001; Number of Positions: 10; Connector Type: Male Pin; Contact Resistance: 15mR; Max Voltage Rating (AC): 250V; Pitch: 0.1inch; Supplier 1: Digi-Key; RoHS: Yes; Category: Headers and Wire Housings; Stock 1: 10090; Pricing 1: 1=1/96000, 10=1/67200, 100=1/38150, 1000=1/09069, 5000=0/96708, 10000=0/94526 (USD); Mount: Through Hole; Color: Black; Contact Plating: Gold; Housing Material: Polybutylene; Housing Color: Black; Min Operating Temperature: -55°C; Max Operating Temperature: 120°C; Number of Rows: 2; Packaging: Tray; Termination: Solder; Orientation: Straight; Series: C-Grid® 70246; Number of Contacts: 10; Contact Type: Male Pin; Length: 20.32mm; Depth: 8.89mm; Row Spacing: 0.1inch; Contact Mating Length: 0.24inch; RoHS Compliant: Yes; ComponentLink1URL: https://datasheet.ciiva.com/6814/702461001-sd-6814000.pdf?src-supplier=Digi-Key; ComponentLink1Description: https://datasheet.ciiva.com/6814/702461001-sd-6814000.pdf?src-supplier=Digi-Key; Supplier Part Number 1: WM9219-ND
footprint IDC-S1-S-2x05 - 10
pins: 1, 2, 3, 4, 5, 6, 7, 8, 9, 10

## IDC Box Header S-2x06 - 12
designator P?, comment CONN HEADER VERT 12POS 2.54MM
Conn Shrouded Header (4 Sides) HDR 12 POS 2.54mm Solder ST Thru-Hole C-Grid® Frame; Manufacturer: Molex; Manufacturer Part Number: 0702461201; Number of Contacts: 12; Max Voltage Rating (DC): 250V; Supplier 1: Digi-Key; RoHS: Yes; Category: Headers and Wire Housings; Stock 1: 19367; Pricing 1: 1=2/24000, 10=1/90800, 100=1/57600, 1000=1/24425, 5000=1/10600 (USD); Contact Plating: Gold; Contact Material: Bronze; Housing Color: Black; Housing Material: Polybutylene; Min Operating Temperature: -55°C; Max Operating Temperature: 120°C; Number of Rows: 2; Packaging: Tray; Termination: Solder; Orientation: Straight; Length: 22.86mm; Pitch: 2.54mm; Depth: 8.89mm; Radiation Hardening: No; RoHS Compliant: Yes; ComponentLink1URL: https://datasheet.ciiva.com/10083/0702461201-pcb-headers-10083270.pdf?src-supplier=Avnet; ComponentLink1Description: https://datasheet.ciiva.com/10083/0702461201-pcb-headers-10083270.pdf?src-supplier=Avnet; Supplier Part Number 1: 23-0702461201-ND
footprint IDC-S1-S-2x06 - 12
pins: 1, 2, 3, 4, 5, 6, 7, 8, 9, 10, 11, 12

## IDC Box Header S-2x07 - 14
designator P?, comment CONN HEADER VERT 14POS 2.54MM
Conn Shrouded Header (4 Sides) HDR 14 POS 2.54mm Solder ST Thru-Hole C-Grid® Frame; Manufacturer: Molex; Manufacturer Part Number: 0702461401; Number of Positions: 14; Connector Type: Male Pin; Contact Resistance: 15mR; Max Voltage Rating (AC): 250V; Pitch: 0.1inch; Supplier 1: Digi-Key; RoHS: Yes; Category: Headers and Wire Housings; Stock 1: 919; Pricing 1: 1=2/66000, 10=2/26600, 80=1/87175, 960=1/47767, 5760=1/31020 (USD); Mount: Through Hole; Color: Black; Housing Color: Black; Housing Material: Polybutylene; Contact Plating: Gold; Min Operating Temperature: -55°C; Max Operating Temperature: 120°C; Packaging: Tray; Number of Rows: 2; Termination: Solder; Orientation: Straight; Length: 25.4mm; Row Spacing: 0.1inch; Depth: 8.89mm; Contact Mating Length: 0.24inch; Radiation Hardening: No; ComponentLink1URL: http://components.arrow.com/part/dataview/0323_01050262?src-supplier=Arrow+Europe; ComponentLink1Description: http://components.arrow.com/part/dataview/0323_01050262?src-supplier=Arrow+Europe; ComponentLink2URL: http://components.arrow.com/part/dataview/41624616S7103167N3303?src-supplier=Arrow+Electronics; ComponentLink2Description: http://components.arrow.com/part/dataview/41624616S7103167N3303?src-supplier=Arrow+Electronics; ComponentLink3URL: https://www.molex.com/pdm_docs/sd/702461401_sd.pdf?src-supplier=Digi-Key; ComponentLink3Description: https://www.molex.com/pdm_docs/sd/702461401_sd.pdf?src-supplier=Digi-Key; Supplier Part Number 1: WM6547-ND
footprint IDC-S1-S-2x07 - 14
pins: 1, 2, 3, 4, 5, 6, 7, 8, 9, 10, 11, 12, 13, 14

## IDC Box Header S-2x08 - 16
designator P?, comment CONN HEADER VERT 16POS 2.54MM
Conn Shrouded Header (4 Sides) HDR 16 POS 2.54mm Solder ST Thru-Hole C-Grid® Frame; Manufacturer: Molex; Manufacturer Part Number: 0702461601; Number of Positions: 16; Connector Type: Male Pin; Contact Resistance: 15mR; Gender: Male; Max Voltage Rating (AC): 250V; Row Spacing: 0.1inch; Supplier 1: Digi-Key; RoHS: Yes; Category: Headers and Wire Housings; Stock 1: 1637; Pricing 1: 1=2/02000, 10=1/72100, 100=1/42180, 1000=1/12250, 5000=0/99529, 10000=0/97284 (USD); Mount: Through Hole; Housing Material: Polybutylene; Housing Color: Black; Color: Black; Contact Plating: Gold; Contact Material: Bronze; Min Operating Temperature: -55°C; Max Operating Temperature: 120°C; Termination: Solder; Number of Contacts: 16; Packaging: Tray; Number of Rows: 2; Orientation: Straight; Length: 27.94mm; Pitch: 2.54mm; Depth: 8.89mm; Contact Mating Length: 0.24inch; ComponentLink1URL: https://datasheet.ciiva.com/6814/702461001-sd-6814000.pdf?src-supplier=Digi-Key; ComponentLink1Description: https://datasheet.ciiva.com/6814/702461001-sd-6814000.pdf?src-supplier=Digi-Key; Supplier Part Number 1: WM9221-ND
footprint IDC-S1-S-2x08 - 16
pins: 1, 2, 3, 4, 5, 6, 7, 8, 9, 10, 11, 12, 13, 14, 15, 16